# Altium schematic symbol library LM2594HVM-ADJ.SchLib: 1 symbol
Pins are listed as number, name and electrical type; pins without a type are passive.

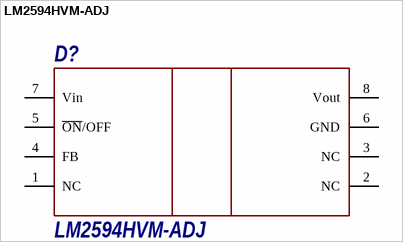
[diagram p0: symbol LM2594HVM-ADJ]

## LM2594HVM-ADJ
designator D?
pins: 1 NC, 2 NC, 3 NC, 4 FB, 5 ~{ON}/OFF, 6 GND, 7 Vin, 8 Vout